# Altium schematic symbol library TMP441.SchLib: 2 symbols
Pins are listed as number, name and electrical type; pins without a type are passive.

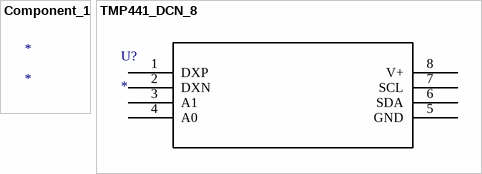
[diagram p0: symbols Component_1 to TMP441_DCN_8]

## Component_1
designator *

## TMP441_DCN_8
designator U?
Imported; Manufacturer_Part_Number: tmp441_dcn_8; GENERIC_PART_NUMBER: TMP441; Vendor: Texas Instruments; PACKAGE_DESIGNATOR: DCN; PIN_COUNT: 8; FAMILY_NAME: TEMPERATURE SENSOR; INDUSTRY_STD_PKG_TYPE: SOT-23; Datasheet URL: http://www.ti.com/lit/gpn/TMP441; Manufacturer: Texas Instruments; RefDes: RefDes; Type: DEV; Value: Value
footprint DCN8
pins: 1 DXP, 2 DXN, 3 A1, 4 A0, 5 GND (power), 6 SDA, 7 SCL, 8 V+ (power)